# Altium schematic symbol library SG_SCH_Module.SchLib: 55 symbols
Pins are listed as number, name and electrical type; pins without a type are passive.

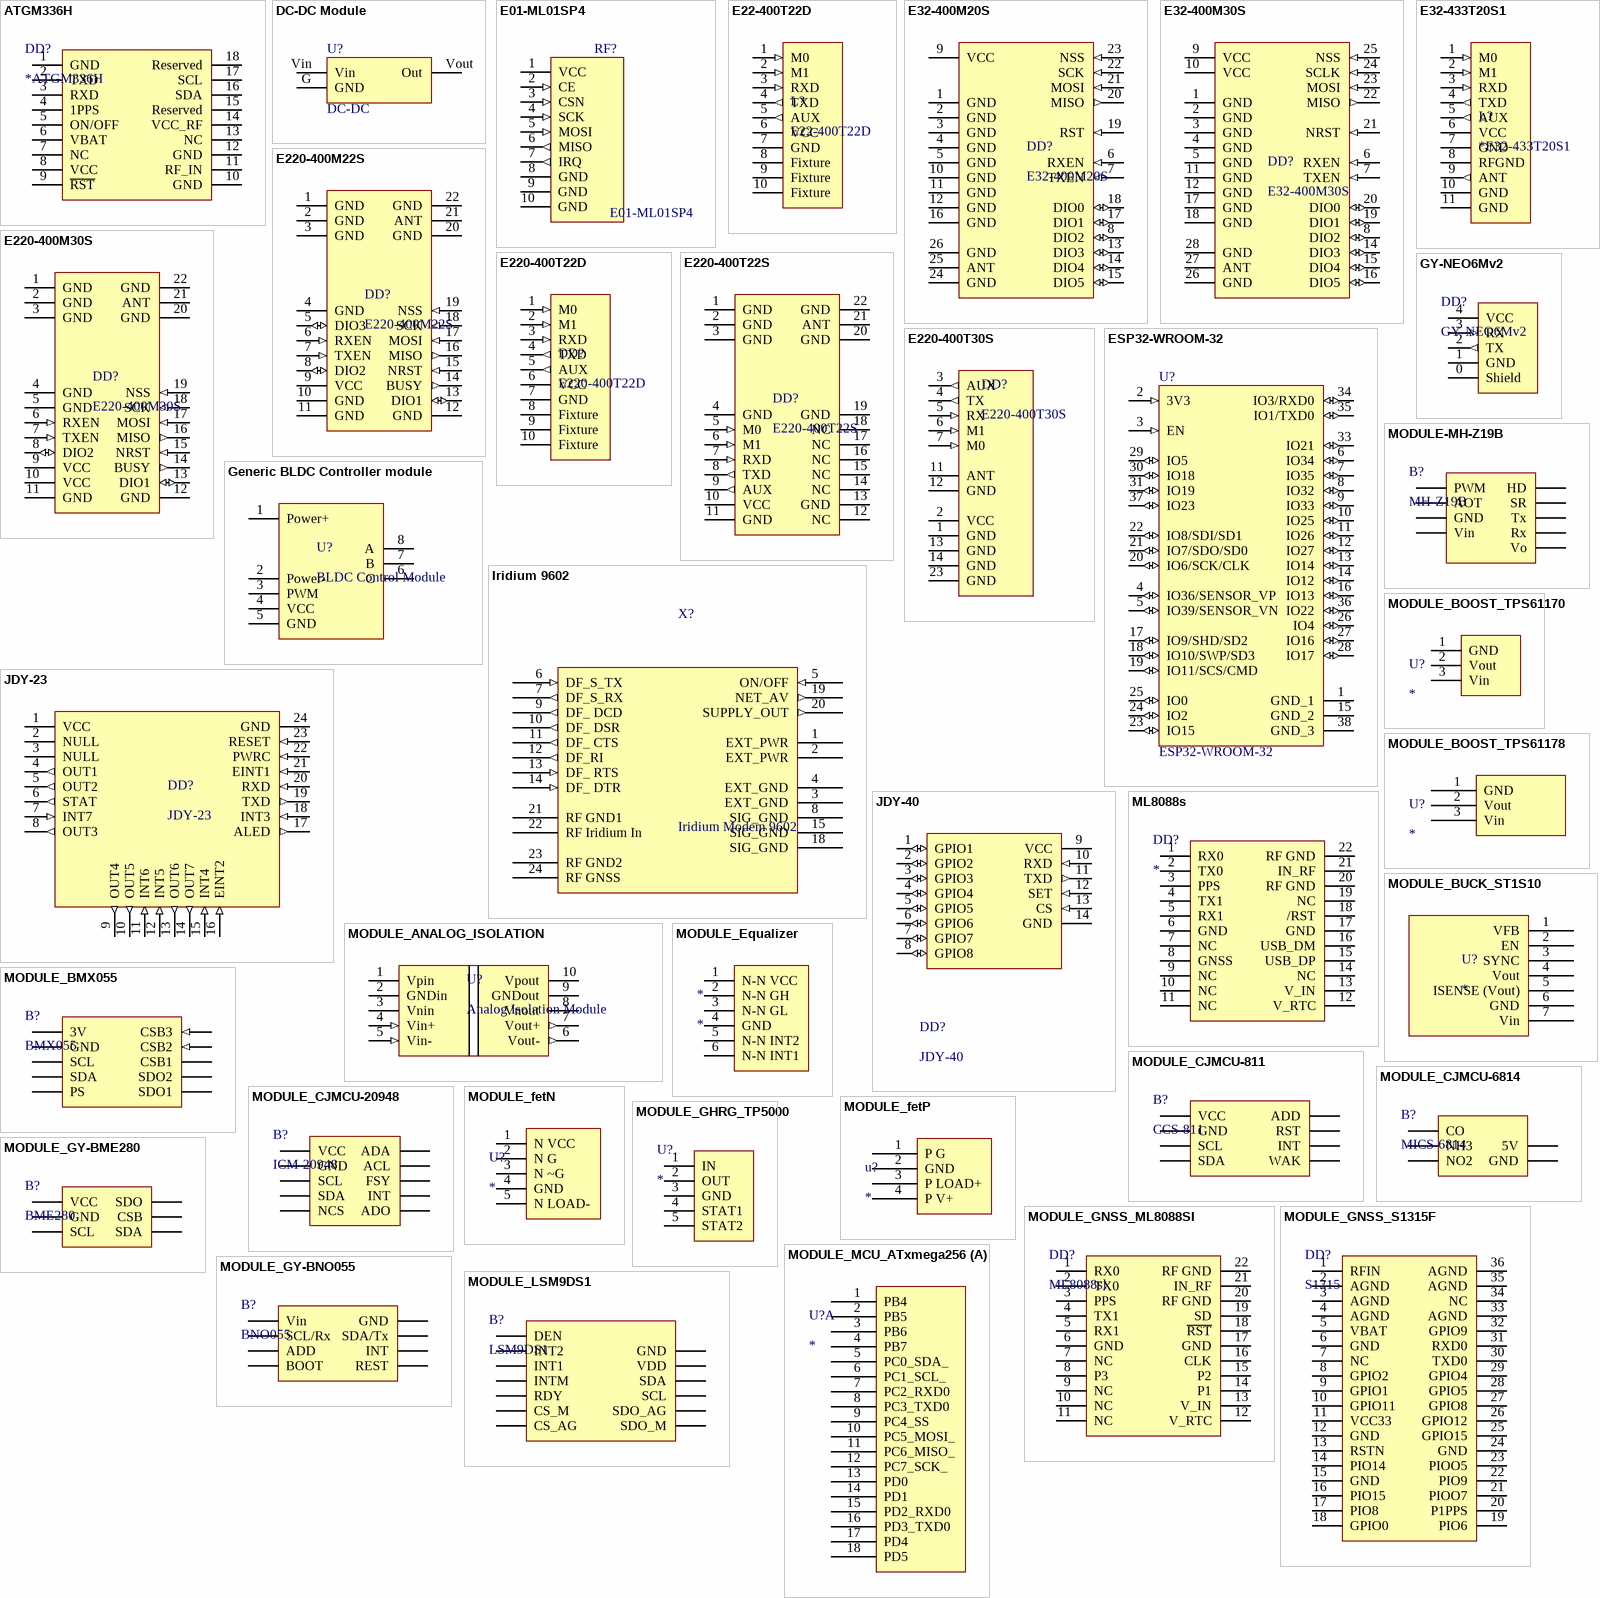
[diagram p0: symbols ATGM336H to MODULE_MCU_ATxmega256]

## ATGM336H
designator DD?, comment *ATGM336H
GNSS; Order: *ATGM336H
footprint MODULE_ATGM336H (PQFN, 18-Leads, Body 9,70x10,10mm, Pitch 1,10mm, IPC Low Density)
pins: 1 GND (power), 2 TXD, 3 RXD, 4 1PPS, 5 ON/OFF, 6 VBAT, 7 NC, 8 VCC (power), 9 ~{RST}, 10 GND, 11 RF_IN, 12 GND, 13 NC, 14 VCC_RF, 15 Reserved, 16 SDA, 17 SCL, 18 Reserved

## DC-DC Module
designator U?, comment DC-DC
2.5-11.5 -> 5,8,9,12; Order: Chinese DC-DC StepUp; OriginalSource: MiniSat EPS v3
footprint Chinese DC-DC StepUp
pins: G GND, Vin, Vout Out

## E01-ML01SP4
designator RF?
RF; Order: E01-ML01SP4
footprint MODULE_E01-ML01SP4
pins: 1 VCC (power), 2 CE (in), 3 CSN (in), 4 SCK (in), 5 MOSI (in), 6 MISO (out), 7 IRQ (out), 8 GND (power), 9 GND (power), 10 GND (power)

## E22-400T22D
designator L?
E22-400T22D is a wireless serial port module (UART) based on SEMTECH's SX1268 RF chip; Order: E22-400T22D
footprint E22-400T22D
pins: 1 M0 (in) "to deside working modes", 2 M1 (in) "to deside fo working modes", 3 RXD (in) "TTL UART input", 4 TXD (out) "TTL UART output", 5 AUX (out) "to indicate module's working status", 6 VCC (power) "power supply 2,3-5,5V DC", 7 GND (power) "ground", 8 Fixture (power) "ground", 9 Fixture (power) "ground", 10 Fixture (power) "ground"

## E32-400M20S
designator DD?
SX1278 433/470Mhz SPI SMD Wireless Module; Order: E32-400M20S
footprint E32-400M20S
pins: 1 GND (power), 2 GND (power), 3 GND (power), 4 GND (power), 5 GND (power), 6 RXEN (in), 7 TXEN (in), 8 DIO2 (io), 9 VCC (power), 10 GND (power), 11 GND (power), 12 GND (power), 13 DIO3 (io), 14 DIO4 (io), 15 DIO5 (io), 16 GND (power), 17 DIO1 (io), 18 DIO0 (io), 19 RST (in), 20 MISO (out), 21 MOSI (in), 22 SCK (in), 23 NSS (in), 24 GND (power), 25 ANT (hiz), 26 GND (power)

## E32-400M30S
designator DD?
433/470MHz LoRa SMD wireless module with the maximum transmission power of 1W which is based on the SX1278; Order: E32-400M30S
footprint E32-400M30S (Footprint not found)
pins: 1 GND (power) "Ground", 2 GND (power) "Ground", 3 GND (power) "Ground", 4 GND (power) "Ground", 5 GND (power) "Ground", 6 RXEN (in) "RF switch receiving control pin, connected to external MCU IO, high level effective", 7 TXEN (in) "RF switch receiving control pin, connected to external MCU IO, high level effective", 8 DIO2 (io) "General IO port (see SX1278 manual for details)", 9 VCC (power) "Power supply, range 3.3 ~ 5.5V (external ceramic filter capacitor is recommended)", 10 VCC (power) "Power supply, range 3.3 ~ 5.5V (external ceramic filter capacitor is recommended)", 11 GND (power) "Ground", 12 GND (power) "Ground", 14 DIO3 (io) "General IO port (see SX1278 manual for details)", 15 DIO4 (io) "General IO port (see SX1278 manual for details)", 16 DIO5 (io) "General IO port (see SX1278 manual for details)", 17 GND (power) "Ground", 18 GND (power) "Ground", 19 DIO1 (io) "General IO port (see SX1278 manual for details)", 20 DIO0 (io) "General IO port (see SX1278 manual for details)", 21 NRST (in) "Chip reset trigger input pin", 22 MISO (out) "SPI data output pin", 23 MOSI (in) "SPI data output pin", 24 SCLK (in) "SPI data output pin", 25 NSS (in) "the module chip selects the pin used to start an SPI communication", 26 GND (power) "Ground", 27 ANT (hiz) "Antenna interface, Sample hole (50Ω characteristic impedance)", 28 GND (power) "Ground"

## E32-433T20S1
designator L?, comment *E32-433T20S1
E32-433T20S1 is a wireless transceiver module based on SX1278 of SEMTECH; Order: *E32-433T20S1
footprint E32-433T20S1
pins: 1 M0 (in) "to modes of module", 2 M1 (in) "to modes of module", 3 RXD (in) "TTL UART inputs", 4 TXD (out) "TTL UART outputs", 5 AUX (out) "to indicate module working status", 6 VCC (power) "Power supply 2,3-5,2V DC", 7 GND (power) "Ground", 8 RFGND (power) "high-frequent ground", 9 ANT (out) "antenna access point", 10 GND (power) "ground", 11 GND (power) "ground"

## E220-400M22S
designator DD?
22dBm LLCC68 SPI LoRa module; Order: E220-400M22S
footprint E220-400M22S
pins: 1 GND (power), 2 GND (power), 3 GND (power), 4 GND (power), 5 DIO3 (io), 6 RXEN (in), 7 TXEN (in), 8 DIO2 (io), 9 VCC (power), 10 GND (power), 11 GND (power), 12 GND (power), 13 DIO1 (io), 14 BUSY (out), 15 NRST (in), 16 MISO (out), 17 MOSI (in), 18 SCK (in), 19 NSS (in), 20 GND (power), 21 ANT (hiz), 22 GND (power)

## E220-400M30S
designator DD?
30dBm LLCC68 SPI LoRa module; Order: E220-400M30S
footprint E220-400M30S (Footprint not found)
pins: 1 GND (power), 2 GND (power), 3 GND (power), 4 GND (power), 5 GND (power), 6 RXEN (in), 7 TXEN (in), 8 DIO2 (io), 9 VCC (power), 10 VCC (power), 11 GND (power), 12 GND (power), 13 DIO1 (io), 14 BUSY (out), 15 NRST (in), 16 MISO (out), 17 MOSI (in), 18 SCK (in), 19 NSS (in), 20 GND (power), 21 ANT (hiz), 22 GND (power)

## E220-400T22D
designator DD?
E220-400T22D adopts a new generation of LoRa spread spectrum technology and a wireless serial port module (UART) designed based on the LLCC68 chip scheme; Order: E220-400T22D
footprint E220-400T22D
pins: 1 M0 (in) "to decide working modes", 2 M1 (in) "to decide working modes", 3 RXD (in) "TTL UART input", 4 TXD (out) "TTL UART output", 5 AUX (out) "to indicate module's working status", 6 VCC (power) "voltage range 3,0-5,5V DC", 7 GND (power) "ground", 8 Fixture (power) "ground", 9 Fixture (power) "ground", 10 Fixture (power) "ground"

## E220-400T22S
designator DD?
22dBm LoRa module; Order: E220-400T22S
footprint E220-400T22S
pins: 1 GND (power), 2 GND (power), 3 GND (power), 4 GND (power), 5 M0 (in), 6 M1 (in), 7 RXD (in), 8 TXD (out), 9 AUX (out), 10 VCC (power), 11 GND (power), 12 NC, 13 GND (power), 14 NC, 15 NC, 16 NC, 17 NC, 18 NC, 19 GND (power), 20 GND (power), 21 ANT (hiz), 22 GND (power)

## E220-400T30S
designator DD?
30dBm LoRa module; Order: E220-400T30S
footprint E220-400T30S
pins: 1 GND (power), 2 VCC (power), 3 AUX (out), 4 TX (out), 5 RX (in), 6 M1 (in), 7 M0 (in), 11 ANT, 12 GND (power), 13 GND (power), 14 GND (power), 23 GND (power)

## ESP32-WROOM-32
designator U?
ESP32-WROOM-32 module; Order: ESP32-WROOM-32
footprint ESP32-WROOM-32 (Footprint not found)
pins: 1 GND_1 (power), 2 3V3 (in), 3 EN (in), 4 IO36/SENSOR_VP (io), 5 IO39/SENSOR_VN (io), 6 IO34 (io), 7 IO35 (io), 8 IO32 (io), 9 IO33 (io), 10 IO25 (io), 11 IO26 (io), 12 IO27 (io), 13 IO14 (io), 14 IO12 (io), 15 GND_2 (power), 16 IO13 (io), 17 IO9/SHD/SD2 (io), 18 IO10/SWP/SD3 (io), 19 IO11/SCS/CMD (io), 20 IO6/SCK/CLK (io), 21 IO7/SDO/SD0 (io), 22 IO8/SDI/SD1 (io), 23 IO15 (io), 24 IO2 (io), 25 IO0 (io), 26 IO4 (io), 27 IO16 (io), 28 IO17 (io), 29 IO5 (io), 30 IO18 (io), 31 IO19 (io), 33 IO21 (io), 34 IO3/RXD0 (io), 35 IO1/TXD0 (io), 36 IO22 (io), 37 IO23 (io), 38 GND_3 (power)

## Generic BLDC Controller module
designator U?, comment BLDC Control Module
Generic BLDC Controller module; Order: *BLDC Controller Module*
pins: 1 Power+, 2 Power-, 3 PWM, 4 VCC, 5 GND, 6 C, 7 B, 8 A

## GY-NEO6Mv2
designator DD?
Ublox NEO6M PCB Module; Order: GY-NEO6Mv2
footprint GY-NEO6Mv2 (Ublox NEO6m Module PCB)
pins: 0 Shield (power), 1 GND (power), 2 TX (out), 3 RX (in), 4 VCC (power)

## Iridium 9602
designator X?, comment Iridium Modem 9602
Order: Iridium Modem 9602; OriginalSource: Iridium
footprint Iridium9602 (Footprint not found)
pins: 1 EXT_PWR (power), 2 EXT_PWR (power), 3 EXT_GND (power), 4 EXT_GND (power), 5 ON/OFF (in), 6 DF_S_TX (in), 7 DF_S_RX (out), 8 SIG_GND (power), 9 DF_ DCD (out), 10 DF_ DSR (out), 11 DF_ CTS (out), 12 DF_RI (out), 13 DF_ RTS (in), 14 DF_ DTR (in), 15 SIG_GND (power), 18 SIG_GND (power), 19 NET_AV (out), 20 SUPPLY_OUT (out), 21 RF GND1 (power), 22 RF Iridium In (hiz), 23 RF GND2 (power), 24 RF GNSS (hiz)

## JDY-23
designator DD?
The JDY-23 Bluetooth 5 Module; Order: JDY-23
footprint JDY-23 (Footprint not found)
pins: 1 VCC (power), 2 NULL, 3 NULL, 4 OUT1 (out), 5 OUT2 (out), 6 STAT (out), 7 INT7 (in), 8 OUT3 (out), 9 OUT4 (out), 10 OUT5 (out), 11 INT6 (in), 12 INT5 (in), 13 OUT6 (out), 14 OUT7 (out), 15 INT4 (in), 16 EINT2 (in), 17 ALED (out), 18 INT3 (in), 19 TXD (out), 20 RXD (in), 21 EINT1 (in), 22 PWRC (in), 23 RESET (in), 24 GND (power)

## JDY-40
designator DD?
JDY-40 wireless serial port module; Order: JDY-40
footprint JDY-40 (Footprint not found)
pins: 1 GPIO1 (io), 2 GPIO2 (io), 3 GPIO3 (io), 4 GPIO4 (io), 5 GPIO5 (io), 6 GPIO6 (io), 7 GPIO7 (io), 8 GPIO8 (io), 9 VCC (power), 10 RXD (in), 11 TXD (out), 12 SET (in), 13 CS (in), 14 GND (power)

## ML8088s
designator DD?
GPS; Order: *
footprint ML8088s
pins: 1 RX0, 2 TX0, 3 PPS, 4 TX1, 5 RX1, 6 GND, 7 NC, 8 GNSS, 9 NC, 10 NC, 11 NC, 12 V_RTC, 13 V_IN, 14 NC, 15 USB_DP, 16 USB_DM, 17 GND, 18 /RST, 19 NC, 20 RF GND, 21 IN_RF, 22 RF GND

## MODULE-MH-Z19B
designator B?, comment MH-Z19B
Gas sensor; OriginalSource: AltTab; Order: *
footprint MODULE-MH-Z19B
pins: 1 PWM, 2 AOT, 3 GND, 4 Vin, 5 Vo, 6 Rx, 7 Tx, 8 SR, 9 HD

## MODULE_ANALOG_ISOLATION
designator U?, comment Analog Isolation Module
DefaultOrder: Analog signal isolation module; OriginalSource: AltTab; Order: *
footprint MODULE_ANALOG_ISOLATION (Footprint not found)
footprint MODULE_AnalogIso
pins: 1 Vpin (power), 2 GNDin (power), 3 Vnin (power), 4 Vin+ (in), 5 Vin- (in), 6 Vout- (out), 7 Vout+ (out), 8 Vnout (power), 9 GNDout (power), 10 Vpout (power)

## MODULE_BMX055
designator B?, comment BMX055
MEMS; OriginalSource: AltTab; Order: *
footprint MODULE_CJMCU-20948
pins: 1 3V, 2 GND, 3 SCL, 4 SDA, 5 PS, 6 SDO1, 7 SDO2, 8 CSB1, 9 CSB2 (in), 10 CSB3 (in)

## MODULE_BOOST_TPS61170
designator U?
OriginalSource: AltTab
pins: 1 GND, 2 Vout, 3 Vin

## MODULE_BOOST_TPS61178
designator U?
OriginalSource: AltTab
pins: 1 GND, 2 Vout, 3 Vin

## MODULE_BUCK_ST1S10
designator U?
OriginalSource: AltTab
pins: 1 VFB, 2 EN, 3 SYNC, 4 Vout, 5 ISENSE (Vout), 6 GND, 7 Vin

## MODULE_CJMCU-811
designator B?, comment CCS-811
Gas sensor; OriginalSource: AltTab; Order: *
footprint MODULE_CJMCU-811
pins: 1 VCC, 2 GND, 3 SCL, 4 SDA, 5 WAK, 6 INT, 7 RST, 8 ADD

## MODULE_CJMCU-6814
designator B?, comment MICS-6814
Gas sensor; OriginalSource: AltTab; Order: *
footprint MODULE_CJMCU-6814
pins: 1 CO, 2 NH3, 3 NO2, 4 GND, 5 5V

## MODULE_CJMCU-20948
designator B?, comment ICM-20948
MEMS; OriginalSource: AltTab; Order: *
footprint MODULE_CJMCU-20948
pins: 1 VCC, 2 GND, 3 SCL, 4 SDA, 5 NCS, 6 ADO, 7 INT, 8 FSY, 9 ACL, 10 ADA

## MODULE_Equalizer
designator *
OriginalSource: AltTab
pins: 1 N-N VCC, 2 N-N GH, 3 N-N GL, 4 GND, 5 N-N INT2, 6 N-N INT1

## MODULE_fetN
designator U?
OriginalSource: AltTab
pins: 1 N VCC, 2 N G, 3 N ~G, 4 GND, 5 N LOAD-

## MODULE_fetP
designator u?
OriginalSource: AltTab
pins: 1 P G, 2 GND, 3 P LOAD+, 4 P V+

## MODULE_GHRG_TP5000
designator U?
OriginalSource: AltTab
pins: 1 IN, 2 OUT, 3 GND, 4 STAT1, 5 STAT2

## MODULE_GNSS_ML8088SI
designator DD?, comment ML8088sl
GNSS; OriginalSource: AltTab; Order: ML8088sl
footprint ML8088s
pins: 1 RX0, 2 TX0, 3 PPS, 4 TX1, 5 RX1, 6 GND, 7 NC, 8 P3, 9 NC, 10 NC, 11 NC, 12 V_RTC, 13 V_IN, 14 P1, 15 P2, 16 CLK, 17 GND, 18 ~{RST}, 19 SD, 20 RF GND, 21 IN_RF, 22 RF GND

## MODULE_GNSS_S1315F
designator DD?, comment S1315
GNSS; Order: S1315*; OriginalSource: AltTab
pins: 1 RFIN, 2 AGND, 3 AGND, 4 AGND, 5 VBAT, 6 GND, 7 NC, 8 GPIO2, 9 GPIO1, 10 GPIO11, 11 VCC33, 12 GND, 13 RSTN, 14 PIO14, 15 GND, 16 PIO15, 17 PIO8, 18 GPIO0, 19 PIO6, 20 P1PPS, 21 PIOO7, 22 PIO9, 23 PIOO5, 24 GND, 25 GPIO15, 26 GPIO12, 27 GPIO8, 28 GPIO5, 29 GPIO4, 30 TXD0, 31 RXD0, 32 GPIO9, 33 AGND, 34 NC, 35 AGND, 36 AGND

## MODULE_GY-BME280
designator B?, comment BME280
Baro; OriginalSource: AltTab; Order: *
footprint MODULE_GY-BME280
pins: 1 VCC, 2 GND, 3 SCL, 4 SDA, 5 CSB, 6 SDO

## MODULE_GY-BNO055
designator B?, comment BNO055
MEMS mcu; OriginalSource: AltTab; Order: *
footprint MODULE_GY-BNO055
pins: 1 Vin, 2 GND, 3 SCL/Rx, 4 SDA/Tx, 5 ADD, 6 INT, 7 BOOT, 8 REST

## MODULE_LSM9DS1
designator B?, comment LSM9DS1
MEMS; OriginalSource: AltTab; Order: *
footprint MODULE_LSM9DS1
pins: 1 DEN, 2 INT2, 3 INT1, 4 INTM, 5 RDY, 6 CS_M, 7 CS_AG, 8 SDO_M, 9 SDO_AG, 10 SCL, 11 SDA, 12 VDD, 13 GND

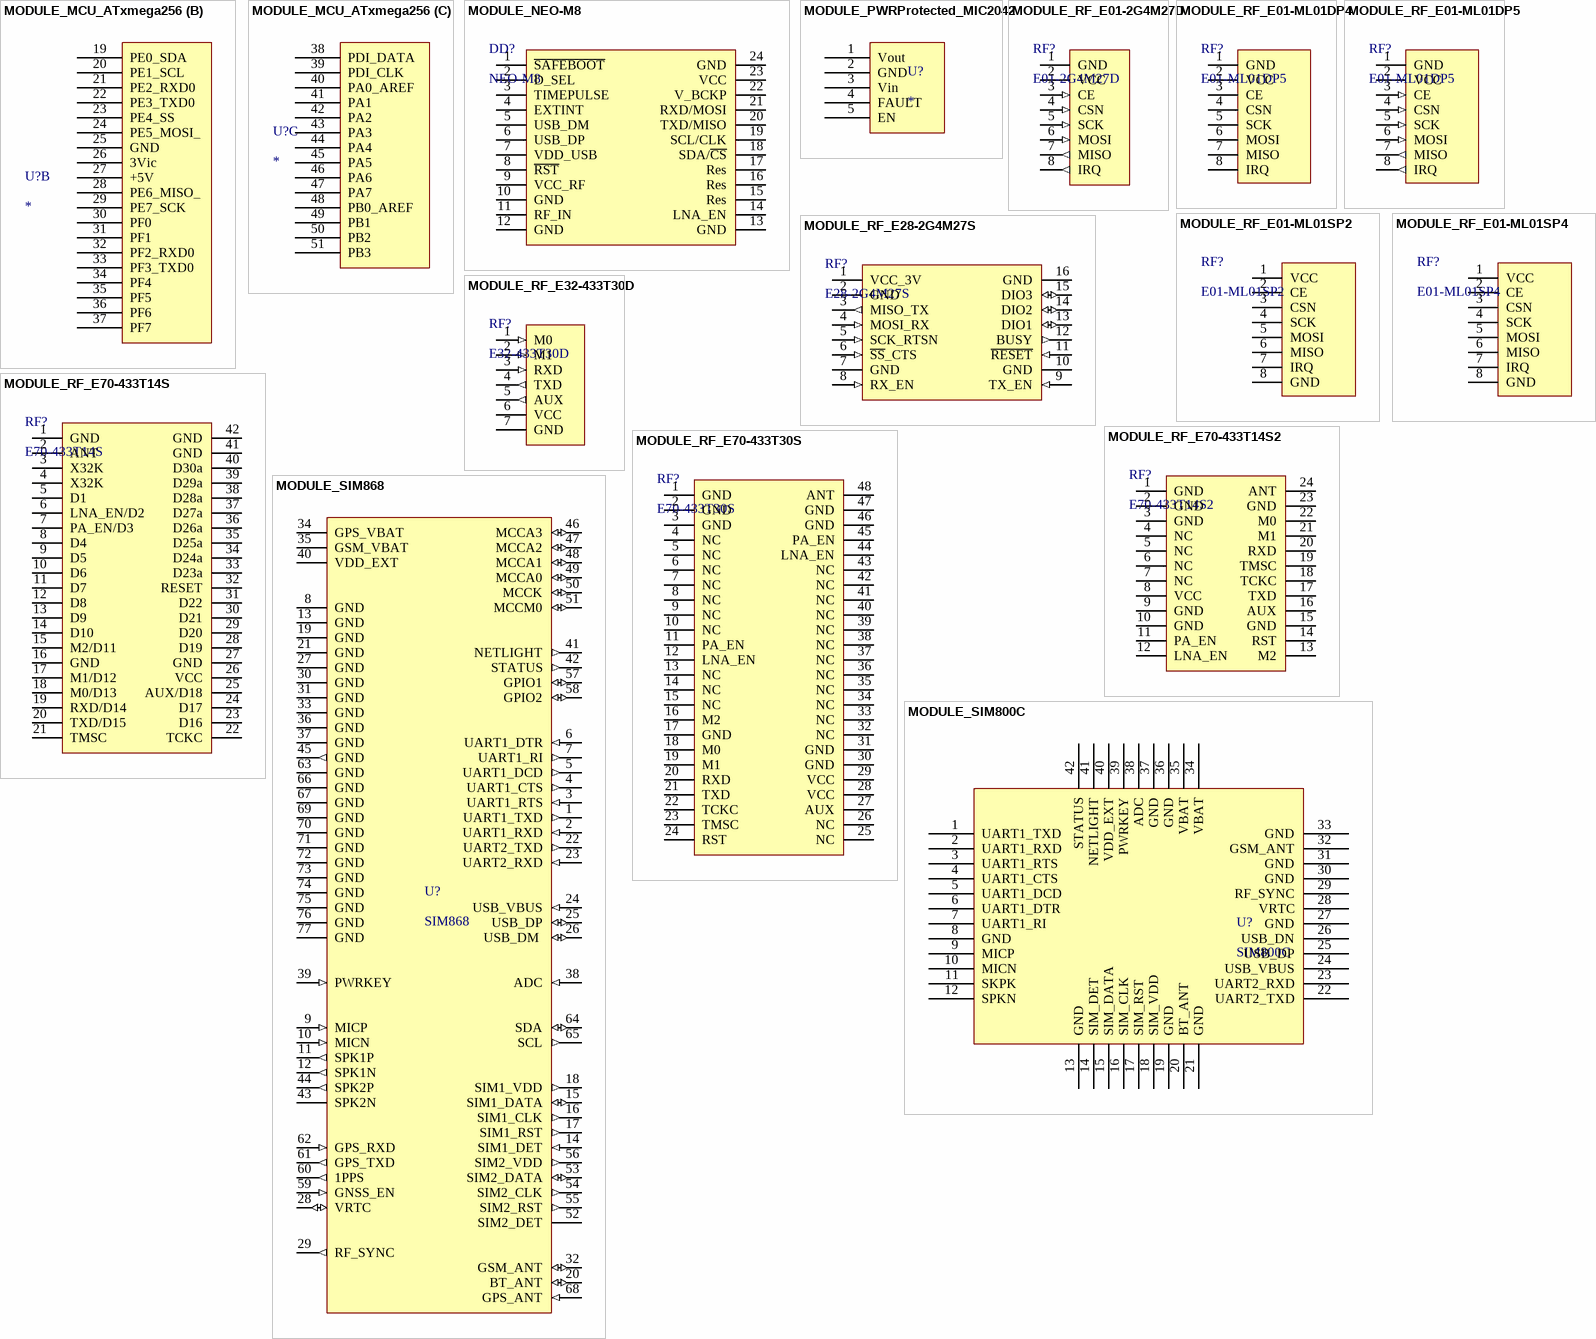
[diagram p1: symbols MODULE_MCU_ATxmega256 to MODULE_SIM868]

## MODULE_MCU_ATxmega256
designator U?
OriginalSource: AltTab
part A pins: 1 PB4, 2 PB5, 3 PB6, 4 PB7, 5 PC0_SDA_, 6 PC1_SCL_, 7 PC2_RXD0, 8 PC3_TXD0, 9 PC4_SS, 10 PC5_MOSI_, 11 PC6_MISO_, 12 PC7_SCK_, 13 PD0, 14 PD1, 15 PD2_RXD0, 16 PD3_TXD0, 17 PD4, 18 PD5
part B pins: 19 PE0_SDA, 20 PE1_SCL, 21 PE2_RXD0, 22 PE3_TXD0, 23 PE4_SS, 24 PE5_MOSI_, 25 GND, 26 3Vic, 27 +5V, 28 PE6_MISO_, 29 PE7_SCK, 30 PF0, 31 PF1, 32 PF2_RXD0, 33 PF3_TXD0, 34 PF4, 35 PF5, 36 PF6, 37 PF7
part C pins: 38 PDI_DATA, 39 PDI_CLK, 40 PA0_AREF, 41 PA1, 42 PA2, 43 PA3, 44 PA4, 45 PA5, 46 PA6, 47 PA7, 48 PB0_AREF, 49 PB1, 50 PB2, 51 PB3

## MODULE_NEO-M8
designator DD?, comment NEO-M8
GNSS; OriginalSource: AltTab; Order: *
footprint MODULE_NEO-M8 (u-blox NEO GNSS module)
pins: 1 ~{SAFEBOOT}, 2 D_SEL, 3 TIMEPULSE, 4 EXTINT, 5 USB_DM, 6 USB_DP, 7 VDD_USB, 8 ~{RST}, 9 VCC_RF, 10 GND, 11 RF_IN, 12 GND, 13 GND, 14 LNA_EN, 15 Res, 16 Res, 17 Res, 18 SDA/~{CS}, 19 SCL/CLK, 20 TXD/MISO, 21 RXD/MOSI, 22 V_BCKP, 23 VCC, 24 GND

## MODULE_PWRProtected_MIC2042
designator U?
OriginalSource: AltTab
pins: 1 Vout, 2 GND, 3 Vin, 4 FAULT, 5 EN

## MODULE_RF_E01-2G4M27D
designator RF?, comment E01-2G4M27D
RF; OriginalSource: AltTab; Order: *
footprint MODULE_E01-2G4M27D
pins: 1 GND (power), 2 VCC (power), 3 CE (in), 4 CSN (in), 5 SCK (in), 6 MOSI (in), 7 MISO (out), 8 IRQ (out)

## MODULE_RF_E01-ML01DP4
designator RF?, comment E01-ML01DP5
RF; OriginalSource: AltTab; Order: *
footprint E01-ML01DP4
pins: 1 GND, 2 VCC, 3 CE, 4 CSN, 5 SCK, 6 MOSI, 7 MISO, 8 IRQ

## MODULE_RF_E01-ML01DP5
designator RF?, comment E01-ML01DP5
RF; OriginalSource: AltTab; Order: *
pins: 1 GND (power), 2 VCC (power), 3 CE (in), 4 CSN (in), 5 SCK (in), 6 MOSI (in), 7 MISO (out), 8 IRQ (out)

## MODULE_RF_E01-ML01SP2
designator RF?, comment E01-ML01SP2
RF; OriginalSource: AltTab; Order: *
footprint E01-ML01SP2
pins: 1 VCC, 2 CE, 3 CSN, 4 SCK, 5 MOSI, 6 MISO, 7 IRQ, 8 GND, 9, 10

## MODULE_RF_E01-ML01SP4
designator RF?, comment E01-ML01SP4
RF; OriginalSource: AltTab; Order: *
pins: 1 VCC, 2 CE, 3 CSN, 4 SCK, 5 MOSI, 6 MISO, 7 IRQ, 8 GND, 9, 10

## MODULE_RF_E28-2G4M27S
designator RF?, comment E28-2G4M27S
RF; OriginalSource: AltTab
footprint MODULE_E28-2G4M27S
footprint MODULE_E28
pins: 1 VCC_3V (power), 2 GND (power), 3 MISO_TX (out), 4 MOSI_RX (in), 5 SCK_RTSN (in), 6 ~{SS}_CTS (in), 7 GND (power), 8 RX_EN (in), 9 TX_EN (in), 10 GND (power), 11 ~{RESET} (in), 12 BUSY (out), 13 DIO1 (io), 14 DIO2 (io), 15 DIO3 (io), 16 GND (power)

## MODULE_RF_E32-433T30D
designator RF?, comment E32-433T30D
RF; OriginalSource: AltTab; Order: *
footprint MODULE_E32-433T30D
footprint MODULE_E32 (36mm*21mm-D/SMAі¤¶И12.5mm)
pins: 1 M0 (in), 2 M1 (in), 3 RXD (in), 4 TXD (out), 5 AUX (out), 6 VCC (power), 7 GND (power)

## MODULE_RF_E70-433T14S
designator RF?, comment E70-433T14S
RF; OriginalSource: AltTab
footprint PE70(433T14S) (26mm*16mm*2.4mm-S)
pins: 1 GND, 2 ANT, 3 X32K, 4 X32K, 5 D1, 6 LNA_EN/D2, 7 PA_EN/D3, 8 D4, 9 D5, 10 D6, 11 D7, 12 D8, 13 D9, 14 D10, 15 M2/D11, 16 GND, 17 M1/D12, 18 M0/D13, 19 RXD/D14, 20 TXD/D15, 21 TMSC, 22 TCKC, 23 D16, 24 D17, 25 AUX/D18, 26 VCC, 27 GND, 28 D19, 29 D20, 30 D21, 31 D22, 32 RESET, 33 D23a, 34 D24a, 35 D25a, 36 D26a, 37 D27a, 38 D28a, 39 D29a, 40 D30a, 41 GND, 42 GND

## MODULE_RF_E70-433T14S2
designator RF?, comment E70-433T14S2
RF; OriginalSource: AltTab
footprint MODUL E70-433T14S2
footprint PE70(433T14S2) (20mm*14mm*2.57mm-S)
pins: 1 GND, 2 GND, 3 GND, 4 NC, 5 NC, 6 NC, 7 NC, 8 VCC, 9 GND, 10 GND, 11 PA_EN, 12 LNA_EN, 13 M2, 14 RST, 15 GND, 16 AUX, 17 TXD, 18 TCKC, 19 TMSC, 20 RXD, 21 M1, 22 M0, 23 GND, 24 ANT

## MODULE_RF_E70-433T30S
designator RF?, comment E70-433T30S
RF; OriginalSource: AltTab
footprint E70-433T30S
footprint PE70(433T30S) (38.5mm*24mm*3.80mm-S)
pins: 1 GND, 2 GND, 3 GND, 4 NC, 5 NC, 6 NC, 7 NC, 8 NC, 9 NC, 10 NC, 11 PA_EN, 12 LNA_EN, 13 NC, 14 NC, 15 NC, 16 M2, 17 GND, 18 M0, 19 M1, 20 RXD, 21 TXD, 22 TCKC, 23 TMSC, 24 RST, 25 NC, 26 NC, 27 AUX, 28 VCC, 29 VCC, 30 GND, 31 GND, 32 NC, 33 NC, 34 NC, 35 NC, 36 NC, 37 NC, 38 NC, 39 NC, 40 NC, 41 NC, 42 NC, 43 NC, 44 LNA_EN, 45 PA_EN, 46 GND, 47 GND, 48 ANT

## MODULE_SIM800C
designator U?, comment SIM800C
GSM; OriginalSource: AltTab
pins: 1 UART1_TXD, 2 UART1_RXD, 3 UART1_RTS, 4 UART1_CTS, 5 UART1_DCD, 6 UART1_DTR, 7 UART1_RI, 8 GND, 9 MICP, 10 MICN, 11 SKPK, 12 SPKN, 13 GND, 14 SIM_DET, 15 SIM_DATA, 16 SIM_CLK, 17 SIM_RST, 18 SIM_VDD, 19 GND, 20 BT_ANT, 21 GND, 22 UART2_TXD, 23 UART2_RXD, 24 USB_VBUS, 25 USB_DP, 26 USB_DN, 27 GND, 28 VRTC, 29 RF_SYNC, 30 GND, 31 GND, 32 GSM_ANT, 33 GND, 34 VBAT, 35 VBAT, 36 GND, 37 GND, 38 ADC, 39 PWRKEY, 40 VDD_EXT, 41 NETLIGHT, 42 STATUS

## MODULE_SIM868
designator U?, comment SIM868
GSM | GNSS; OriginalSource: AltTab; Order: *
pins: 1 UART1_TXD (out), 2 UART1_RXD (in), 3 UART1_RTS (in), 4 UART1_CTS (out), 5 UART1_DCD (out), 6 UART1_DTR (in), 7 UART1_RI (out), 8 GND, 9 MICP (in), 10 MICN (in), 11 SPK1P (out), 12 SPK1N (out), 13 GND, 14 SIM1_DET (in), 15 SIM1_DATA (io), 16 SIM1_CLK (out), 17 SIM1_RST (out), 18 SIM1_VDD (out), 19 GND, 20 BT_ANT (io), 21 GND, 22 UART2_TXD (out), 23 UART2_RXD (in), 24 USB_VBUS (in), 25 USB_DP (io), 26 USB_DM  (io), 27 GND, 28 VRTC (io), 29 RF_SYNC (out), 30 GND, 31 GND, 32 GSM_ANT (io), 33 GND, 34 GPS_VBAT (power), 35 GSM_VBAT (power), 36 GND (power), 37 GND (power), 38 ADC (in), 39 PWRKEY (in), 40 VDD_EXT (power), 41 NETLIGHT (out), 42 STATUS (out), 43 SPK2N, 44 SPK2P (out), 45 GND (out), 46 MCCA3 (io), 47 MCCA2 (io), 48 MCCA1 (io), 49 MCCA0 (io), 50 MCCK (io), 51 MCCM0 (io), 52 SIM2_DET, 53 SIM2_DATA (io), 54 SIM2_CLK (out), 55 SIM2_RST (out), 56 SIM2_VDD (out), 57 GPIO1 (io), 58 GPIO2 (io), 59 GNSS_EN (in), 60 1PPS (out), 61 GPS_TXD (out), 62 GPS_RXD (in), 63 GND, 64 SDA (io), 65 SCL (out), 66 GND, 67 GND, 68 GPS_ANT (in), 69 GND, 70 GND, 71 GND, 72 GND, 73 GND, 74 GND, 75 GND, 76 GND, 77 GND

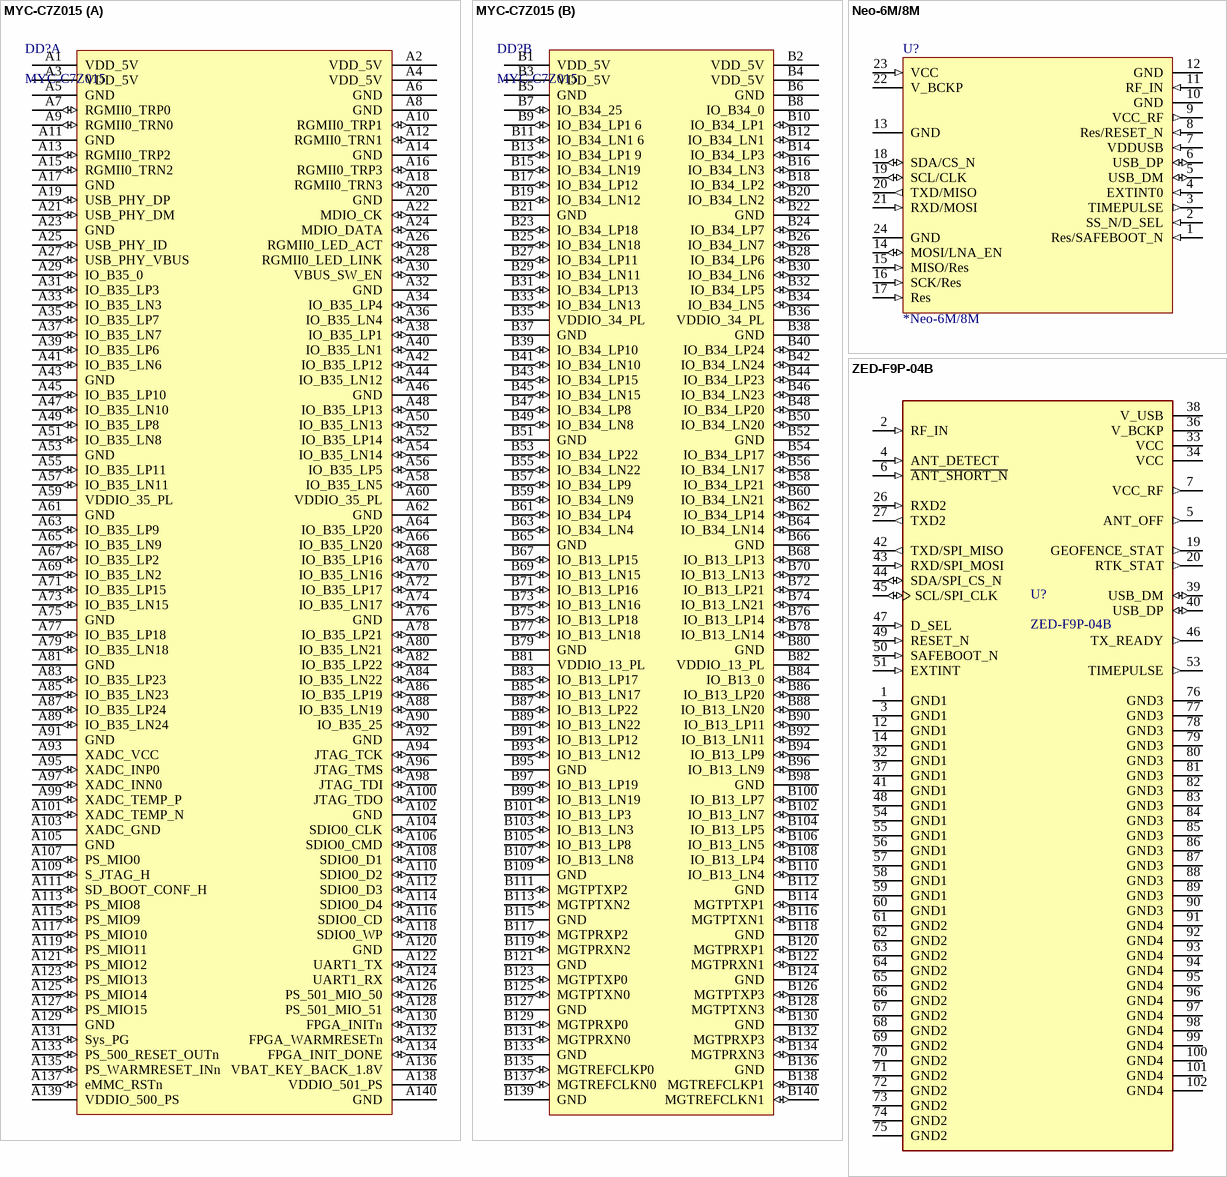
[diagram p2: symbols MYC-C7Z015 to ZED-F9P-04B]

## MYC-C7Z015
designator DD?
Zynq 7000 CPU module; Order: MYC-C7Z015
part A pins: A1 VDD_5V (power), A2 VDD_5V (power), A3 VDD_5V (power), A4 VDD_5V (power), A5 GND (power), A6 GND (power), A7 RGMII0_TRP0 (io), A8 GND (power), A9 RGMII0_TRN0 (io), A10 RGMII0_TRP1 (io), A11 GND (power), A12 RGMII0_TRN1 (io), A13 RGMII0_TRP2 (io), A14 GND (power), A15 RGMII0_TRN2 (io), A16 RGMII0_TRP3 (io), A17 GND (power), A18 RGMII0_TRN3 (io), A19 USB_PHY_DP (io), A20 GND (power), A21 USB_PHY_DM (io), A22 MDIO_CK (io), A23 GND (power), A24 MDIO_DATA (io), A25 USB_PHY_ID (io), A26 RGMII0_LED_ACT (io), A27 USB_PHY_VBUS (io), A28 RGMII0_LED_LINK (io), A29 IO_B35_0 (io), A30 VBUS_SW_EN (io), A31 IO_B35_LP3 (io), A32 GND (power), A33 IO_B35_LN3 (io), A34 IO_B35_LP4 (io), A35 IO_B35_LP7 (io), A36 IO_B35_LN4 (io), A37 IO_B35_LN7 (io), A38 IO_B35_LP1 (io), A39 IO_B35_LP6 (io), A40 IO_B35_LN1 (io), A41 IO_B35_LN6 (io), A42 IO_B35_LP12 (io), A43 GND (power), A44 IO_B35_LN12 (io), A45 IO_B35_LP10 (io), A46 GND (power), A47 IO_B35_LN10 (io), A48 IO_B35_LP13 (io), A49 IO_B35_LP8 (io), A50 IO_B35_LN13 (io), A51 IO_B35_LN8 (io), A52 IO_B35_LP14 (io), A53 GND (power), A54 IO_B35_LN14 (io), A55 IO_B35_LP11 (io), A56 IO_B35_LP5 (io), A57 IO_B35_LN11 (io), A58 IO_B35_LN5 (io), A59 VDDIO_35_PL (power), A60 VDDIO_35_PL (power), A61 GND (power), A62 GND (power), A63 IO_B35_LP9 (io), A64 IO_B35_LP20 (io), A65 IO_B35_LN9 (io), A66 IO_B35_LN20 (io), A67 IO_B35_LP2 (io), A68 IO_B35_LP16 (io), A69 IO_B35_LN2 (io), A70 IO_B35_LN16 (io), A71 IO_B35_LP15 (io), A72 IO_B35_LP17 (io), A73 IO_B35_LN15 (io), A74 IO_B35_LN17 (io), A75 GND (power), A76 GND (power), A77 IO_B35_LP18 (io), A78 IO_B35_LP21 (io), A79 IO_B35_LN18 (io), A80 IO_B35_LN21 (io), A81 GND (power), A82 IO_B35_LP22 (io), A83 IO_B35_LP23 (io), A84 IO_B35_LN22 (io), A85 IO_B35_LN23 (io), A86 IO_B35_LP19 (io), A87 IO_B35_LP24 (io), A88 IO_B35_LN19 (io), A89 IO_B35_LN24 (io), A90 IO_B35_25 (io), A91 GND (power), A92 GND (power), A93 XADC_VCC (power), A94 JTAG_TCK (io), A95 XADC_INP0 (io), A96 JTAG_TMS (io), A97 XADC_INN0 (io), A98 JTAG_TDI (io), A99 XADC_TEMP_P (io), A100 JTAG_TDO (io), A101 XADC_TEMP_N (io), A102 GND (power), A103 XADC_GND (power), A104 SDIO0_CLK (io), A105 GND (power), A106 SDIO0_CMD (io), A107 PS_MIO0 (io), A108 SDIO0_D1 (io), A109 S_JTAG_H (io), A110 SDIO0_D2 (io), A111 SD_BOOT_CONF_H (io), A112 SDIO0_D3 (io), A113 PS_MIO8 (io), A114 SDIO0_D4 (io), A115 PS_MIO9 (io), A116 SDIO0_CD (io), A117 PS_MIO10 (io), A118 SDIO0_WP (io), A119 PS_MIO11 (io), A120 GND (power), A121 PS_MIO12 (io), A122 UART1_TX (io), A123 PS_MIO13 (io), A124 UART1_RX (io), A125 PS_MIO14 (io), A126 PS_501_MIO_50 (io), A127 PS_MIO15 (io), A128 PS_501_MIO_51 (io), A129 GND (power), A130 FPGA_INITn (io), A131 Sys_PG (io), A132 FPGA_WARMRESETn (io), A133 PS_500_RESET_OUTn (io), A134 FPGA_INIT_DONE (io), A135 PS_WARMRESET_INn (io), A136 VBAT_KEY_BACK_1.8V (power), A137 eMMC_RSTn (io), A138 VDDIO_501_PS (power), A139 VDDIO_500_PS (power), A140 GND (power)
part B pins: B1 VDD_5V (power), B2 VDD_5V (power), B3 VDD_5V (power), B4 VDD_5V (power), B5 GND (power), B6 GND (power), B7 IO_B34_25 (io), B8 IO_B34_0 (power), B9 IO_B34_LP1 6 (io), B10 IO_B34_LP1 (io), B11 IO_B34_LN1 6 (io), B12 IO_B34_LN1 (io), B13 IO_B34_LP1 9 (io), B14 IO_B34_LP3 (io), B15 IO_B34_LN19 (io), B16 IO_B34_LN3 (io), B17 IO_B34_LP12 (io), B18 IO_B34_LP2 (io), B19 IO_B34_LN12 (io), B20 IO_B34_LN2 (io), B21 GND (power), B22 GND (power), B23 IO_B34_LP18 (io), B24 IO_B34_LP7 (io), B25 IO_B34_LN18 (io), B26 IO_B34_LN7 (io), B27 IO_B34_LP11 (io), B28 IO_B34_LP6 (io), B29 IO_B34_LN11 (io), B30 IO_B34_LN6 (io), B31 IO_B34_LP13 (io), B32 IO_B34_LP5 (io), B33 IO_B34_LN13 (io), B34 IO_B34_LN5 (io), B35 VDDIO_34_PL (power), B36 VDDIO_34_PL (power), B37 GND (power), B38 GND (power), B39 IO_B34_LP10 (io), B40 IO_B34_LP24 (io), B41 IO_B34_LN10 (io), B42 IO_B34_LN24 (io), B43 IO_B34_LP15 (io), B44 IO_B34_LP23 (io), B45 IO_B34_LN15 (io), B46 IO_B34_LN23 (io), B47 IO_B34_LP8 (io), B48 IO_B34_LP20 (io), B49 IO_B34_LN8 (io), B50 IO_B34_LN20 (io), B51 GND (power), B52 GND (power), B53 IO_B34_LP22 (io), B54 IO_B34_LP17 (io), B55 IO_B34_LN22 (io), B56 IO_B34_LN17 (io), B57 IO_B34_LP9 (io), B58 IO_B34_LP21 (io), B59 IO_B34_LN9 (io), B60 IO_B34_LN21 (io), B61 IO_B34_LP4 (io), B62 IO_B34_LP14 (io), B63 IO_B34_LN4 (io), B64 IO_B34_LN14 (io), B65 GND (power), B66 GND (power), B67 IO_B13_LP15 (io), B68 IO_B13_LP13 (io), B69 IO_B13_LN15 (io), B70 IO_B13_LN13 (io), B71 IO_B13_LP16 (io), B72 IO_B13_LP21 (io), B73 IO_B13_LN16 (io), B74 IO_B13_LN21 (io), B75 IO_B13_LP18 (io), B76 IO_B13_LP14 (io), B77 IO_B13_LN18 (io), B78 IO_B13_LN14 (io), B79 GND (power), B80 GND (power), B81 VDDIO_13_PL (power), B82 VDDIO_13_PL (power), B83 IO_B13_LP17 (io), B84 IO_B13_0 (io), B85 IO_B13_LN17 (io), B86 IO_B13_LP20 (io), B87 IO_B13_LP22 (io), B88 IO_B13_LN20 (io), B89 IO_B13_LN22 (io), B90 IO_B13_LP11 (io), B91 IO_B13_LP12 (io), B92 IO_B13_LN11 (io), B93 IO_B13_LN12 (io), B94 IO_B13_LP9 (io), B95 GND (power), B96 IO_B13_LN9 (io), B97 IO_B13_LP19 (io), B98 GND (power), B99 IO_B13_LN19 (io), B100 IO_B13_LP7 (io), B101 IO_B13_LP3 (io), B102 IO_B13_LN7 (io), B103 IO_B13_LN3 (io), B104 IO_B13_LP5 (io), B105 IO_B13_LP8 (io), B106 IO_B13_LN5 (io), B107 IO_B13_LN8 (io), B108 IO_B13_LP4 (io), B109 GND (power), B110 IO_B13_LN4 (io), B111 MGTPTXP2 (io), B112 GND (power), B113 MGTPTXN2 (io), B114 MGTPTXP1 (io), B115 GND (power), B116 MGTPTXN1 (io), B117 MGTPRXP2 (io), B118 GND (power), B119 MGTPRXN2 (io), B120 MGTPRXP1 (io), B121 GND (power), B122 MGTPRXN1 (io), B123 MGTPTXP0 (io), B124 GND (power), B125 MGTPTXN0 (io), B126 MGTPTXP3 (io), B127 GND (power), B128 MGTPTXN3 (io), B129 MGTPRXP0 (io), B130 GND (power), B131 MGTPRXN0 (io), B132 MGTPRXP3 (io), B133 GND (power), B134 MGTPRXN3 (io), B135 MGTREFCLKP0 (io), B136 GND (power), B137 MGTREFCLKN0 (io), B138 MGTREFCLKP1 (io), B139 GND (power), B140 MGTREFCLKN1 (io)

## Neo-6M/8M
designator U?, comment *Neo-6M/8M
GNSS module; Order: *Neo-6M/8M
footprint MODULE_NEO-M8 (u-blox NEO GNSS module)
pins: 1 Res/SAFEBOOT_N (in), 2 SS_N/D_SEL (in), 3 TIMEPULSE (out), 4 EXTINT0 (in), 5 USB_DM (io), 6 USB_DP (io), 7 VDDUSB (in), 8 Res/RESET_N (in), 9 VCC_RF (out), 10 GND (power), 11 RF_IN (in), 12 GND (power), 13 GND (power), 14 MOSI/LNA_EN (io), 15 MISO/Res (in), 16 SCK/Res (in), 17 Res (in), 18 SDA/CS_N (io), 19 SCL/CLK (io), 20 TXD/MISO (out), 21 RXD/MOSI (in), 22 V_BCKP (power), 23 VCC (in), 24 GND (power)

## ZED-F9P-04B
designator U?
series RF Receiver BeiDou, Galileo, GLONASS, GNSS, GPS 1.207GHz, 1.2276GHz, 1.246GHz, 1.561GHz, 1.575GHz, 1.602GHz -167dBm 921.6kbps - 54-LGA (22x17); Order: ZED-F9P-04B
footprint ZED-F9P (Footprint not found)
pins: 1 GND1 (power), 2 RF_IN (in), 3 GND1 (power), 4 ANT_DETECT (in), 5 ANT_OFF (out), 6 ~{ANT_SHORT_N} (in), 7 VCC_RF (out), 12 GND1 (power), 14 GND1 (power), 19 GEOFENCE_STAT (out), 20 RTK_STAT (out), 26 RXD2 (in), 27 TXD2 (out), 32 GND1 (power), 33 VCC (power), 34 VCC (power), 36 V_BCKP (power), 37 GND1 (power), 38 V_USB (power), 39 USB_DM (io), 40 USB_DP (io), 41 GND1 (power), 42 TXD/SPI_MISO (out), 43 RXD/SPI_MOSI (in), 44 SDA/SPI_CS_N (io), 45 SCL/SPI_CLK (io), 46 TX_READY (out), 47 D_SEL (in), 48 GND1 (power), 49 RESET_N (in), 50 SAFEBOOT_N (in), 51 EXTINT (in), 53 TIMEPULSE (out), 54 GND1 (power), 55 GND1 (power), 56 GND1 (power), 57 GND1 (power), 58 GND1 (power), 59 GND1 (power), 60 GND1 (power), 61 GND2 (power), 62 GND2 (power), 63 GND2 (power), 64 GND2 (power), 65 GND2 (power), 66 GND2 (power), 67 GND2 (power), 68 GND2 (power), 69 GND2 (power), 70 GND2 (power), 71 GND2 (power), 72 GND2 (power), 73 GND2 (power), 74 GND2 (power), 75 GND2 (power), 76 GND3 (power), 77 GND3 (power), 78 GND3 (power), 79 GND3 (power), 80 GND3 (power), 81 GND3 (power), 82 GND3 (power), 83 GND3 (power), 84 GND3 (power), 85 GND3 (power), 86 GND3 (power), 87 GND3 (power), 88 GND3 (power), 89 GND3 (power), 90 GND3 (power), 91 GND4 (power), 92 GND4 (power), 93 GND4 (power), 94 GND4 (power), 95 GND4 (power), 96 GND4 (power), 97 GND4 (power), 98 GND4 (power), 99 GND4 (power), 100 GND4 (power), 101 GND4 (power), 102 GND4 (power)